# EAGLE library part MCP2551 (library mcp2515-2551)
MCP2551 High-Speed CAN Transceiver
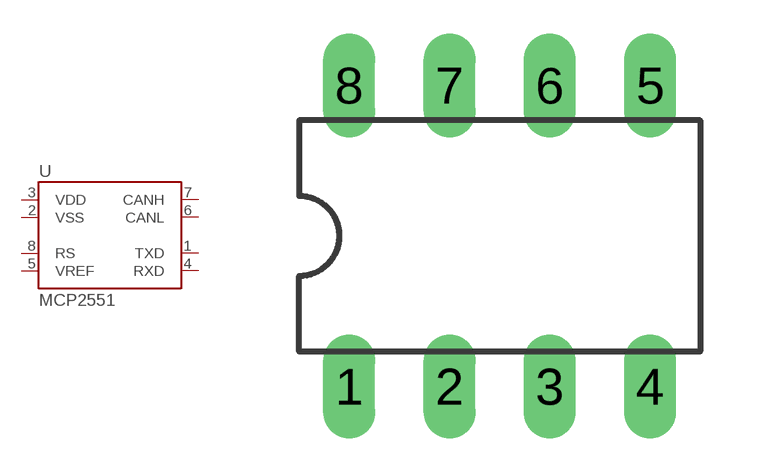
[diagram p0: symbol with the pads of DIL08; footprint DIL08]

Designator prefix U

## MCP2551  [DIL08]
1  TXD  in
2  VSS  pwr
3  VDD  pwr
4  RXD  out
5  VREF  out
6  CANL
7  CANH
8  RS  in

## Footprint DIL08 (pad centres in mm)
Dual In Line Package
drill 0.813 long: 1 -3.81,-3.81; 2 -1.27,-3.81; 3 1.27,-3.81; 4 3.81,-3.81; 5 3.81,3.81; 6 1.27,3.81; 7 -1.27,3.81; 8 -3.81,3.81